# Altium schematic symbol library Microstrip.SchLib: 5 symbols
Pins are listed as number, name and electrical type; pins without a type are passive.

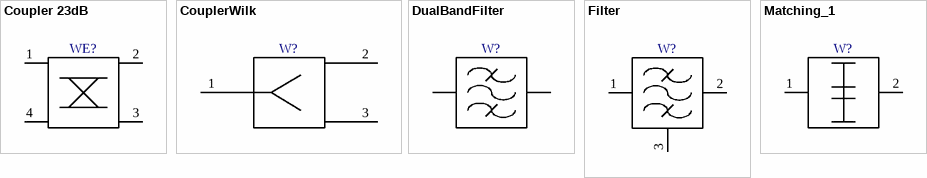
[diagram p0: symbols Coupler 23dB to Matching_1]

## Coupler 23dB
designator WE?, comment Copuler 23dB  (value not drawn)  (net tie, no BOM)
Copuler, 23 dB, diel RO4003, h=0.5mm; RFDescription: Ответвитель направленный
footprint Coupler 23dB (Copuler, 23 dB, diel RO4003, h=0.5mm)
pins: 1, 2, 3, 4

## CouplerWilk
designator W?, comment Wilkinson Coupler  (value not drawn)  (net tie, no BOM)
Wilkinson Coupler diel 7.2GHz, RO4003, h=0.2mm; RFDescription: Делитель кольцевой развязанный
footprint CouplerWilk (Wilkinson Coupler diel 7.2GHz, RO4003, h=0.2mm)
pins: 1, 2, 3

## DualBandFilter
designator W?, comment DualBandFilter 3 pole coupled  (value not drawn)  (net tie, no BOM)
RFDescription: Фильтр полоснопропускающий микрополосковый
footprint DualBandFilter (DualBandFilter on coupled resonators)
pins: 1, 2

## Filter
designator W?  (value not drawn)  (net tie, no BOM)
Bandpass filter, Fc 1.250GHz, BW 75 MHz, type - four pole microstrip cross coupled resonators, diel RO3003, h=0.5mm; RFDescription: Фильтр полоснопропускающий микрополосковый
footprint Filter (Bandpass filter, Fc 1.250GHz, BW 75 MHz, type - four pole microstrip cross coupled resonators, diel RO3003, h=0.5mm)
pins: 1, 2, 3

## Matching_1
designator W?, comment Matching_DA1_in  (value not drawn)  (net tie, no BOM)
Matching_DA1_in / Pad 2 refplane component outline; RFDescription: Цепь согласующая микрополосковая
footprint Matching_DA1_in
pins: 1, 2